# Altium footprint library StepDriver.PcbLib: 2 footprints
Each footprint in its own frame and in the unit in brackets; x right, y up, seen from the top. Pads: shape width x height; smd on the part's side, far side on the other; paste and mask are expansions set on the pad; w line width, h text height; cw(c..) or ccw(c..) is an arc to the next point about the centre after c.
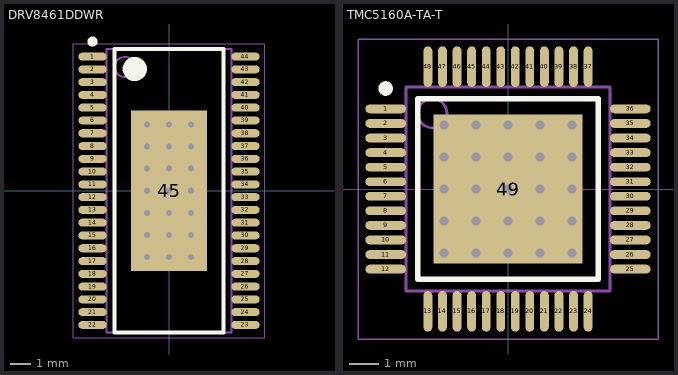
[diagram p0: the footprints below, top view; thin cyan lines are the x and y axes]

## DRV8461DDWR [mm] "TSOP, 44-Leads, Body 14.00x6.10mm, Pitch 0.64mm, Thermal Pad 8.00x3.80mm, IPC Medium Density"
height 1.2
pads (45):
  oval 1.4x0.4 smd: 1(-3.8,6.667) 2(-3.8,6.032) 3(-3.8,5.397) 4(-3.8,4.763) 5(-3.8,4.127) 6(-3.8,3.492) 7(-3.8,2.857) 8(-3.8,2.222) 9(-3.8,1.587) 10(-3.8,0.953) 11(-3.8,0.318) 12(-3.8,-0.318) 13(-3.8,-0.953) 14(-3.8,-1.587) 15(-3.8,-2.222) 16(-3.8,-2.857) 17(-3.8,-3.492) 18(-3.8,-4.127) 19(-3.8,-4.763) 20(-3.8,-5.397) 21(-3.8,-6.032) 22(-3.8,-6.667) 23(3.8,-6.667) 24(3.8,-6.032) 25(3.8,-5.397) 26(3.8,-4.763) 27(3.8,-4.127) 28(3.8,-3.492) 29(3.8,-2.857) 30(3.8,-2.222) 31(3.8,-1.587) 32(3.8,-0.953) 33(3.8,-0.318) 34(3.8,0.318) 35(3.8,0.953) 36(3.8,1.587) 37(3.8,2.222) 38(3.8,2.857) 39(3.8,3.492) 40(3.8,4.127) 41(3.8,4.763) 42(3.8,5.397) 43(3.8,6.032) 44(3.8,6.667)
  rect 3.8x8 smd: 45(0,0)
via 1.1,-3.3 diameter 0.5 hole 0.3
via 0,-3.3 diameter 0.5 hole 0.3
via -1.1,-3.3 diameter 0.5 hole 0.3
via 1.1,-2.2 diameter 0.5 hole 0.3
via 0,-2.2 diameter 0.5 hole 0.3
via -1.1,-2.2 diameter 0.5 hole 0.3
via 1.1,-1.1 diameter 0.5 hole 0.3
via 0,-1.1 diameter 0.5 hole 0.3
via -1.1,-1.1 diameter 0.5 hole 0.3
via 1.1,0 diameter 0.5 hole 0.3
via 0,0 diameter 0.5 hole 0.3
via -1.1,0 diameter 0.5 hole 0.3
via 1.1,1.1 diameter 0.5 hole 0.3
via 0,1.1 diameter 0.5 hole 0.3
via -1.1,1.1 diameter 0.5 hole 0.3
via 1.1,2.2 diameter 0.5 hole 0.3
via 0,2.2 diameter 0.5 hole 0.3
via -1.1,2.2 diameter 0.5 hole 0.3
via 1.1,3.3 diameter 0.5 hole 0.3
via 0,3.3 diameter 0.5 hole 0.3
via -1.1,3.3 diameter 0.5 hole 0.3
Top Overlay:
  circle w0.6: c-1.7,6.05 r0.3
  circle w0.25: c-3.8,7.418 r0.125
  lines w0.2: -2.7,-7.05 2.7,-7.05 2.7,7.05 -2.7,7.05 -2.7,-7.05
Top Designator:
  text ".Designator" at -5.998,-0.425 h1.2
Mechanical 13:
  circle w0.1: c-2.2,6.15 r0.5
  lines w0.1: -3.1,-7.05 3.1,-7.05 3.1,7.05 -3.1,7.05 -3.1,-7.05
Mechanical 15:
  lines w0.05: -4.75,-7.3 4.75,-7.3 4.75,7.3 -4.75,7.3 -4.75,-7.3
  lines w0.1: -0.5,0 0.5,0 -0.5,0 ; 0,-0.5 0,0.5 0,-0.5
3D body "TSOP64P810X120_HS-45N.step": height 1.2, standoff 0, extent -4.05,-7.05 4.05,7.05

## TMC5160A-TA-T [mm] "TSQFP, 48-Leads, Body 7.00x7.00mm, Pitch 0.50mm, Thermal Pad 5.10x5.10mm, IPC Medium Density"
height 1.2
pads (49):
  oval 1.4x0.3 smd: 1(-4.2,2.75) 2(-4.2,2.25) 3(-4.2,1.75) 4(-4.2,1.25) 5(-4.2,0.75) 6(-4.2,0.25) 7(-4.2,-0.25) 8(-4.2,-0.75) 9(-4.2,-1.25) 10(-4.2,-1.75) 11(-4.2,-2.25) 12(-4.2,-2.75) 25(4.2,-2.75) 26(4.2,-2.25) 27(4.2,-1.75) 28(4.2,-1.25) 29(4.2,-0.75) 30(4.2,-0.25) 31(4.2,0.25) 32(4.2,0.75) 33(4.2,1.25) 34(4.2,1.75) 35(4.2,2.25) 36(4.2,2.75)
  oval 0.3x1.4 smd: 13(-2.75,-4.2) 14(-2.25,-4.2) 15(-1.75,-4.2) 16(-1.25,-4.2) 17(-0.75,-4.2) 18(-0.25,-4.2) 19(0.25,-4.2) 20(0.75,-4.2) 21(1.25,-4.2) 22(1.75,-4.2) 23(2.25,-4.2) 24(2.75,-4.2) 37(2.75,4.2) 38(2.25,4.2) 39(1.75,4.2) 40(1.25,4.2) 41(0.75,4.2) 42(0.25,4.2) 43(-0.25,4.2) 44(-0.75,4.2) 45(-1.25,4.2) 46(-1.75,4.2) 47(-2.25,4.2) 48(-2.75,4.2)
  rect 5.1x5.1 smd: 49(0,0)
via 2.2,-2.2 diameter 0.5 hole 0.3
via 1.1,-2.2 diameter 0.5 hole 0.3
via 0,-2.2 diameter 0.5 hole 0.3
via -1.1,-2.2 diameter 0.5 hole 0.3
via -2.2,-2.2 diameter 0.5 hole 0.3
via 2.2,-1.1 diameter 0.5 hole 0.3
via 1.1,-1.1 diameter 0.5 hole 0.3
via 0,-1.1 diameter 0.5 hole 0.3
via -1.1,-1.1 diameter 0.5 hole 0.3
via -2.2,-1.1 diameter 0.5 hole 0.3
via 2.2,0 diameter 0.5 hole 0.3
via 1.1,0 diameter 0.5 hole 0.3
via 0,0 diameter 0.5 hole 0.3
via -1.1,0 diameter 0.5 hole 0.3
via -2.2,0 diameter 0.5 hole 0.3
via 2.2,1.1 diameter 0.5 hole 0.3
via 1.1,1.1 diameter 0.5 hole 0.3
via 0,1.1 diameter 0.5 hole 0.3
via -1.1,1.1 diameter 0.5 hole 0.3
via -2.2,1.1 diameter 0.5 hole 0.3
via 2.2,2.2 diameter 0.5 hole 0.3
via 1.1,2.2 diameter 0.5 hole 0.3
via 0,2.2 diameter 0.5 hole 0.3
via -1.1,2.2 diameter 0.5 hole 0.3
via -2.2,2.2 diameter 0.5 hole 0.3
Top Overlay:
  circle w0.25: c-4.2,3.45 r0.125
  lines w0.2: -3.1,-3.1 3.1,-3.1 3.1,3.1 -3.1,3.1 -3.1,-3.1
Top Designator:
  text ".Designator" at -5.998,-0.425 h1.2
Mechanical 13:
  circle w0.1: c-2.6,2.6 r0.5
  lines w0.1: -3.5,-3.5 3.5,-3.5 3.5,3.5 -3.5,3.5 -3.5,-3.5
Mechanical 15:
  lines w0.05: -5.15,-5.15 5.15,-5.15 5.15,5.15 -5.15,5.15 -5.15,-5.15
  lines w0.1: -0.5,0 0.5,0 ; 0,-0.5 0,0.5
3D body "TSQFP50P900X900X120_HS-49N.step": height 1.2, standoff 0, extent -4.5,-4.5 4.5,4.5